# EAGLE library part ADM3311E (library misc-ics)
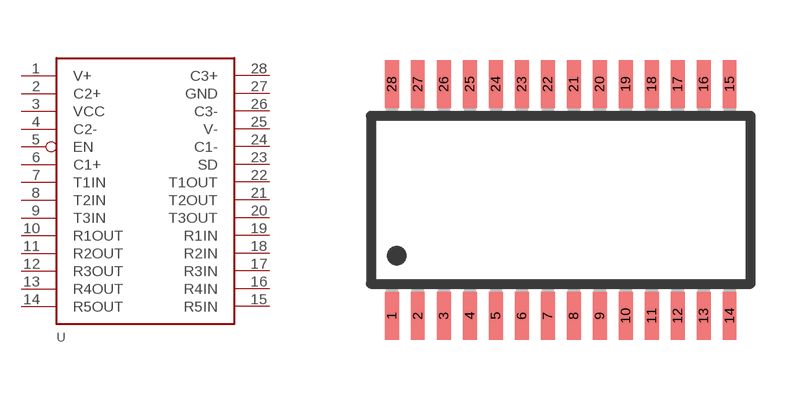
[diagram p0: symbol with the pads of TSSOP28; footprint TSSOP28]

Designator prefix U

## ADM3311E  [TSSOP28]
1  V+
2  C2+
3  VCC
4  C2-
5  EN
6  C1+
7  T1IN
8  T2IN
9  T3IN
10  R1OUT
11  R2OUT
12  R3OUT
13  R4OUT
14  R5OUT
15  R5IN
16  R4IN
17  R3IN
18  R2IN
19  R1IN
20  T3OUT
21  T2OUT
22  T1OUT
23  SD
24  C1-
25  V-
26  C3-
27  GND
28  C3+

## Footprint TSSOP28 (pad centres in mm)
28-Lead TSSOP Package RU-28
smd 0.35 x 1.2: 1 -4.225,-2.9; 2 -3.575,-2.9; 3 -2.925,-2.9; 4 -2.275,-2.9; 5 -1.625,-2.9; 6 -0.975,-2.9; 7 -0.325,-2.9; 8 0.325,-2.9; 9 0.975,-2.9; 10 1.625,-2.9; 11 2.275,-2.9; 12 2.925,-2.9; 13 3.575,-2.9; 14 4.225,-2.9; 15 4.225,2.9; 16 3.575,2.9; 17 2.925,2.9; 18 2.275,2.9; 19 1.625,2.9; 20 0.975,2.9; 21 0.325,2.9; 22 -0.325,2.9; 23 -0.975,2.9; 24 -1.625,2.9; 25 -2.275,2.9; 26 -2.925,2.9; 27 -3.575,2.9; 28 -4.225,2.9